# EAGLE library part 13S- (library Chips)
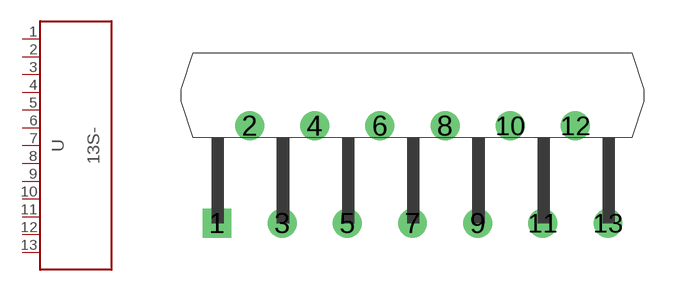
[diagram p8: symbol with the pads of DBS13; footprint DBS13]

Designator prefix U

## 13S-DBS13  [DBS13]
1  P$1
2  P$2
3  P$3
4  P$4
5  P$5
6  P$6
7  P$7
8  P$8
9  P$9
10  P$10
11  P$11
12  P$12
13  P$13

## Footprint DBS13 (pad centres in mm)
drill 1 square: 1 -10.2,-5.08
drill 1: 2 -8.5,0; 3 -6.8,-5.08; 4 -5.1,0; 5 -3.4,-5.08; 6 -1.7,0; 7 0,-5.08; 8 1.7,0; 9 3.4,-5.08; 10 5.1,0; 11 6.8,-5.08; 12 8.5,0; 13 10.2,-5.08